# Altium footprint library SSCI.PcbLib: 3 footprints
Each footprint in its own frame and in the unit in brackets; x right, y up, seen from the top. Pads: shape width x height; smd on the part's side, far side on the other; paste and mask are expansions set on the pad; w line width, h text height; cw(c..) or ccw(c..) is an arc to the next point about the centre after c.
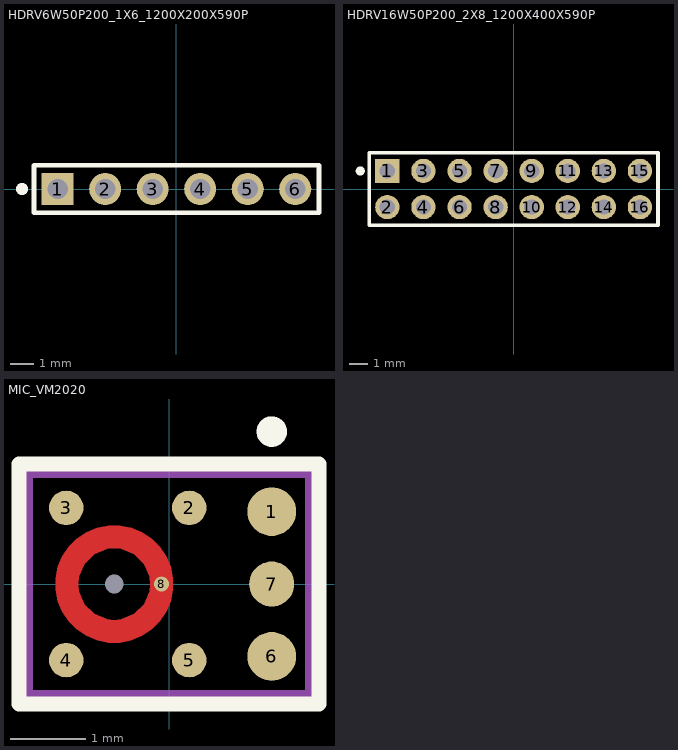
[diagram p0: the footprints below, top view; thin cyan lines are the x and y axes]

## HDRV6W50P200_1X6_1200X200X590P [mm] "CONN HEADER VERT 6POS 2MM"
height 5.9
pads (6):
  rect 1.35x1.35 hole 0.85: 1(-5,0)
  round 1.35 hole 0.85: 2(-3,0) 3(-1,0) 4(1,0) 5(3,0) 6(5,0)
Top Overlay:
  circle w0.254: c-6.5,0 r0.127
  lines w0.203: -6,-1 6,-1 6,1 -6,1 -6,-1
Designator Top:
  text ".Designator" at 0,0 h1.52
Component Outline Top (Mech15):
  circle w0.254: c-5,0 r0.127
  lines w0.127: -6,-1 6,-1 6,1 -6,1 -6,-1
3D body "951106-8622-AR.STEP": height 6.06, standoff -2.69, extent -6.002,-1.002 6.002,1.002

## HDRV16W50P200_2X8_1200X400X590P [mm] "CONN HEADER VERT 16POS 2MM"
height 5.9
pads (16):
  rect 1.35x1.35 hole 0.85: 1(-7,1)
  round 1.35 hole 0.85: 2(-7,-1) 3(-5,1) 4(-5,-1) 5(-3,1) 6(-3,-1) 7(-1,1) 8(-1,-1) 9(1,1) 10(1,-1) 11(3,1) 12(3,-1) 13(5,1) 14(5,-1) 15(7,1) 16(7,-1)
Top Overlay:
  circle w0.254: c-8.5,1 r0.127
  lines w0.203: -8,-2 8,-2 8,2 -8,2 -8,-2
Designator Top:
  text ".Designator" at 0,0 h1.52
Component Outline Top (Mech15):
  circle w0.254: c-7,1 r0.127
  lines w0.127: -8,-2 8,-2 8,2 -8,2 -8,-2
3D body "951216-8622-AR.stp": height 5.5, standoff -2.8, extent -8,-2 8,2

## MIC_VM2020 [mm] "MICROPHONE MEMS ANALOG OMNI"
height 1.4
pads (9):
  round 0 hole 0.25 unplated: 0(-0.73,0)
  round 0.65 smd paste-0.025 mask+0.051: 1(1.37,0.965) 6(1.37,-0.965)
  round 0.46 smd paste-0.025 mask+0.051: 2(0.27,1.015) 3(-1.37,1.015) 4(-1.37,-1.015) 5(0.27,-1.015)
  round 0.6 smd paste-0.025 mask+0.051: 7(1.37,0)
  round 0.2 smd paste-0.3 mask+0: 8(-0.1,0)
Top Layer:
  region: 0.05,0 0.05,-0.077 0.02,-0.228 -0.039,-0.369 -0.124,-0.497 -0.233,-0.606 -0.361,-0.691 -0.502,-0.75 -0.653,-0.78 -0.73,-0.78 -0.807,-0.78 -0.958,-0.75 -1.099,-0.691 -1.227,-0.606 -1.336,-0.497 -1.421,-0.369 -1.48,-0.228 -1.51,-0.077 -1.51,0 -1.21,0 -1.201,-0.094 -1.129,-0.267 -0.997,-0.399 -0.824,-0.471 -0.73,-0.48 -0.636,-0.471 -0.463,-0.399 -0.331,-0.267 -0.259,-0.094 -0.25,0
  region: -1.51,0 -1.51,0.077 -1.48,0.228 -1.421,0.369 -1.336,0.497 -1.227,0.606 -1.099,0.691 -0.958,0.75 -0.807,0.78 -0.73,0.78 -0.653,0.78 -0.502,0.75 -0.361,0.691 -0.233,0.606 -0.124,0.497 -0.039,0.369 0.02,0.228 0.05,0.077 0.05,0 -0.25,0 -0.259,0.094 -0.331,0.267 -0.463,0.399 -0.636,0.471 -0.73,0.48 -0.824,0.471 -0.997,0.399 -1.129,0.267 -1.201,0.094 -1.21,0
Top Overlay:
  circle w0.203: c1.37,2.032 r0.102
  lines w0.203: -2,-1.6 -2,1.6 2,1.6 2,-1.6 -2,-1.6
Top Paste:
  region: -1.508,-0.05 -1.504,-0.12 -1.47,-0.257 -1.412,-0.386 -1.331,-0.502 -1.232,-0.601 -1.116,-0.682 -0.987,-0.74 -0.85,-0.774 -0.78,-0.778 -0.78,-0.528 -0.87,-0.511 -1.035,-0.434 -1.164,-0.305 -1.241,-0.14 -1.258,-0.05
  region: -0.68,-0.778 -0.61,-0.774 -0.473,-0.74 -0.344,-0.682 -0.228,-0.601 -0.129,-0.502 -0.048,-0.386 0.01,-0.257 0.044,-0.12 0.048,-0.05 -0.202,-0.05 -0.219,-0.14 -0.296,-0.305 -0.425,-0.434 -0.59,-0.511 -0.68,-0.528
  region: 0.048,0.05 0.044,0.12 0.01,0.257 -0.048,0.386 -0.129,0.502 -0.228,0.601 -0.344,0.682 -0.473,0.74 -0.61,0.774 -0.68,0.778 -0.68,0.528 -0.59,0.511 -0.425,0.434 -0.296,0.305 -0.219,0.14 -0.202,0.05
  region: -0.78,0.778 -0.85,0.774 -0.987,0.74 -1.116,0.682 -1.232,0.601 -1.331,0.502 -1.412,0.386 -1.47,0.257 -1.504,0.12 -1.508,0.05 -1.258,0.05 -1.241,0.14 -1.164,0.305 -1.035,0.434 -0.87,0.511 -0.78,0.528
Designator Top:
  text ".Designator" at 0,0 h1.52
Component Outline Top (Mech15):
  circle w0.254: c1.37,0.965 r0.127
  lines w0.127: -1.88,-1.475 1.88,-1.475 1.88,1.475 -1.88,1.475 -1.88,-1.475
3D body "VM2020.STEP": height 1.31, standoff 0.01, extent -1.88,-1.475 1.88,1.475